# Altium footprint library BLE_NANO.PcbLib: 1 footprints
Each footprint in its own frame and in the unit in brackets; x right, y up, seen from the top. Pads: shape width x height; smd on the part's side, far side on the other; paste and mask are expansions set on the pad; w line width, h text height; cw(c..) or ccw(c..) is an arc to the next point about the centre after c.
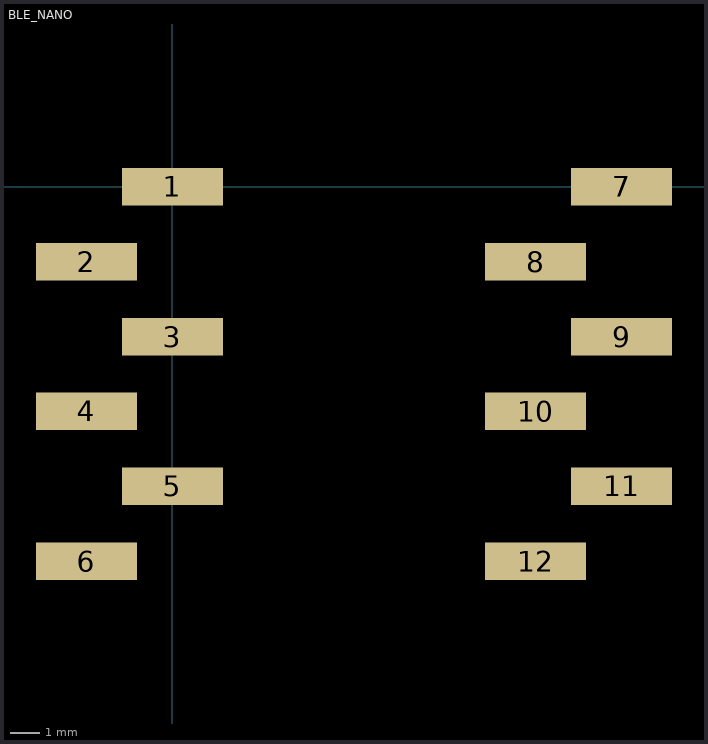
[diagram p0: the footprint, top view; thin cyan lines are the x and y axes]

## BLE_NANO [mil]
pads (12):
  rect 135x50 smd: 1(0,0) 2(-115,-100) 3(0,-200) 4(-115,-300) 5(0,-400) 6(-115,-500) 7(600,0) 8(485,-100) 9(600,-200) 10(485,-300) 11(600,-400) 12(485,-500)